# Altium schematic symbol library Optical Sensors - Photodiodes.SchLib: 5 symbols
Pins are listed as number, name and electrical type; pins without a type are passive.

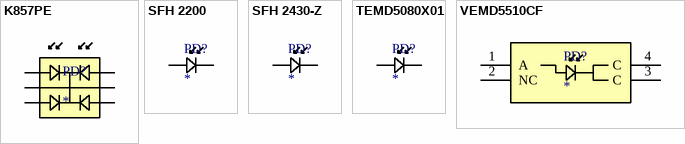
[diagram p0: symbols K857PE to VEMD5510CF]

## K857PE
designator PD?
FOUR QUADRANT PHOTO PIN DIODE; Supplier 1: Digi-Key; Supplier 2: Farnell; Supplier 3: Mouser; Supplier 4: Arrow Electronics; Supplier Part Number 1: 751-K857PECT-ND; Supplier Part Number 2: 3582606; Supplier Part Number 3: 78-K857PE; Supplier Part Number 4: K857PE
footprint VISHAY_K857PE
pins: 1 A4, 2 C1, 3 A2, 4 A1, 5 C2, 6 A3

## SFH 2200
designator PD?
SENSOR PHOTODIODE 940NM 2SMD; Supplier 1: Digi-Key; Supplier Part Number 1: 475-3517-1-ND
footprint OSRAM_SFH-2200
pins: 1, 2

## SFH 2430-Z
designator PD?
SENSOR PHOTODIODE 570NM 2SMD GW; Supplier 1: Digi-Key; Supplier 2: Farnell; Supplier 3: Mouser; Supplier Part Number 1: 475-2579-1-ND; Supplier Part Number 2: 2981708; Supplier Part Number 3: 720-SFH2430-Z
footprint OSRAM_SFH-2430-Z
pins: 1, 2

## TEMD5080X01
designator PD?
PHOTODIODE 350 TO 1070 NM; Supplier 1: Digi-Key; Supplier 2: Farnell; Supplier 3: Mouser; Supplier Part Number 1: TEMD5080X01DKR-ND; Supplier Part Number 2: 2251276; Supplier Part Number 3: 782-TEMD5080X01
footprint VISHAY_TEMD5080X01
pins: 1, 2

## VEMD5510CF
designator PD?
PHOTODIODE 440 TO 620 NM; Supplier 1: Mouser; Supplier Part Number 1: 78-VEMD5510CF-GS15
footprint VISHAY_VEMD5510CF
pins: 1 A, 2 NC, 3 C, 4 C